# Altium schematic symbol library OPA855IDSGR.SchLib: 1 symbol
Pins are listed as number, name and electrical type; pins without a type are passive.

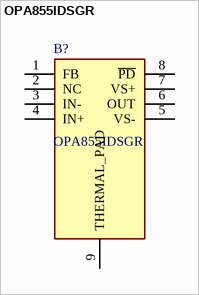
[diagram p0: symbol OPA855IDSGR]

## OPA855IDSGR
designator B?
High Speed Operational Amplifiers 8 GHz Gain Bandwidth Product, Decompensated Transimpedance Amplifier with Bipolar Input 8-WSON -40 to 125; Manufacturer_Name: Texas Instruments; Geometry.Height: 0.8mm; Manufacturer_Part_Number: OPA855IDSGR; Mouser Part Number: 595-OPA855IDSGR; Mouser Price/Stock: https://www.mouser.co.uk/ProductDetail/Texas-Instruments/OPA855IDSGR?qs=byeeYqUIh0NcoHbLiEzp0g%3D%3D; Arrow Part Number: OPA855IDSGR; Arrow Price/Stock: https://www.arrow.com/en/products/opa855idsgr/texas-instruments?region=nac; Datasheet Link: http://www.ti.com/lit/ds/symlink/opa855.pdf
footprint SON50P200X200X80-9N-D
pins: 1 FB, 2 NC, 3 IN-, 4 IN+, 5 VS- (power), 6 OUT, 7 VS+ (power), 8 ~{PD}, 9 THERMAL_PAD